# Altium schematic symbol library CPLD_Xilinx.SchLib: 17 symbols
Pins are listed as number, name and electrical type; pins without a type are passive.

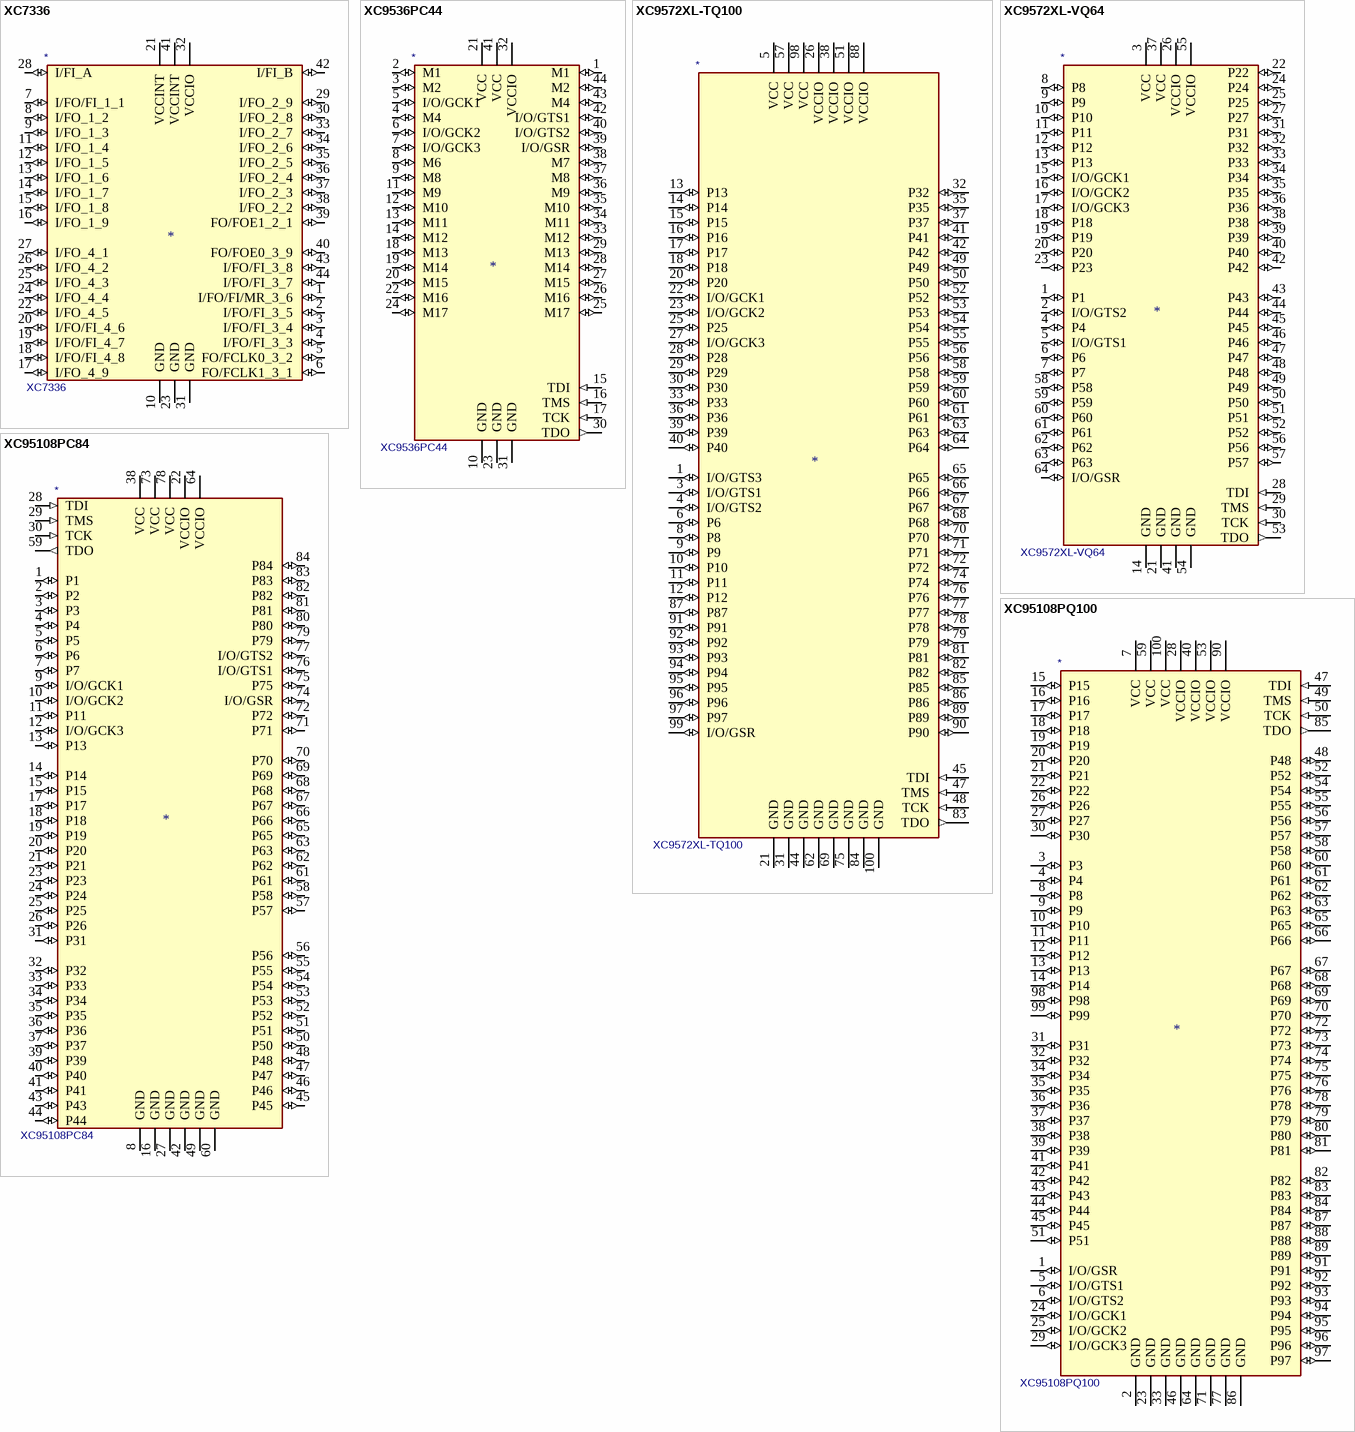
[diagram p0: symbols XC7336 to XC95108PQ100]

## XC7336
designator *  value XC7336
ki_description: Xilinx CPLD, Obsolete
pins: 1 I/FO/FI/MR_3_6 (io), 2 I/FO/FI_3_5 (io), 3 I/FO/FI_3_4 (io), 4 I/FO/FI_3_3 (io), 5 FO/FCLK0_3_2 (io), 6 FO/FCLK1_3_1 (io), 7 I/FO/FI_1_1 (io), 8 I/FO_1_2 (io), 9 I/FO_1_3 (io), 10 GND (power), 11 I/FO_1_4 (io), 12 I/FO_1_5 (io), 13 I/FO_1_6 (io), 14 I/FO_1_7 (io), 15 I/FO_1_8 (io), 16 I/FO_1_9 (io), 17 I/FO_4_9 (io), 18 I/FO/FI_4_8 (io), 19 I/FO/FI_4_7 (io), 20 I/FO/FI_4_6 (io), 21 VCCINT (power), 22 I/FO_4_5 (io), 23 GND (power), 24 I/FO_4_4 (io), 25 I/FO_4_3 (io), 26 I/FO_4_2 (io), 27 I/FO_4_1 (io), 28 I/FI_A (io), 29 I/FO_2_9 (io), 30 I/FO_2_8 (io), 31 GND (power), 32 VCCIO (power), 33 I/FO_2_7 (io), 34 I/FO_2_6 (io), 35 I/FO_2_5 (io), 36 I/FO_2_4 (io), 37 I/FO_2_3 (io), 38 I/FO_2_2 (io), 39 FO/FOE1_2_1 (io), 40 FO/FOE0_3_9 (io), 41 VCCINT (power), 42 I/FI_B (io), 43 I/FO/FI_3_8 (io), 44 I/FO/FI_3_7 (io)

## XC9536PC44
designator *  value XC9536PC44
ki_description: Xilinx CPLD, Obsolete; Supplier: xilinx/xc9536.pdf
pins: 1 M1 (io), 2 M1 (io), 3 M2 (io), 4 M4 (io), 5 I/O/GCK1 (io), 6 I/O/GCK2 (io), 7 I/O/GCK3 (io), 8 M6 (io), 9 M8 (io), 10 GND (power), 11 M9 (io), 12 M10 (io), 13 M11 (io), 14 M12 (io), 15 TDI (in), 16 TMS (in), 17 TCK (in), 18 M13 (io), 19 M14 (io), 20 M15 (io), 21 VCC (power), 22 M16 (io), 23 GND (power), 24 M17 (io), 25 M17 (io), 26 M16 (io), 27 M15 (io), 28 M14 (io), 29 M13 (io), 30 TDO (out), 31 GND (power), 32 VCCIO (power), 33 M12 (io), 34 M11 (io), 35 M10 (io), 36 M9 (io), 37 M8 (io), 38 M7 (io), 39 I/O/GSR (io), 40 I/O/GTS2 (io), 41 VCC (power), 42 I/O/GTS1 (io), 43 M4 (io), 44 M2 (io)

## XC9572XL-TQ100
designator *  value XC9572XL-TQ100
ki_keywords: CPLD; ki_description: CPLD, 72 Macrocells, 1600 Usable Gates; ki_fp_filters: TQFP*14x14mm*P0.5mm*; Footprint: Package_QFP:TQFP-100_14x14mm_P0.5mm; Supplier: http://www.xilinx.com/support/documentation/data_sheets/ds057.pdf
footprint TQFP-100_14x14mm_P0.5mm
pins: 1 I/O/GTS3 (io), 2 NC (in) hidden, 3 I/O/GTS1 (io), 4 I/O/GTS2 (io), 5 VCC (power), 6 P6 (io), 7 NC (in) hidden, 8 P8 (io), 9 P9 (io), 10 P10 (io), 11 P11 (io), 12 P12 (io), 13 P13 (io), 14 P14 (io), 15 P15 (io), 16 P16 (io), 17 P17 (io), 18 P18 (io), 19 NC (in) hidden, 20 P20 (io), 21 GND (power), 22 I/O/GCK1 (io), 23 I/O/GCK2 (io), 24 NC (in) hidden, 25 P25 (io), 26 VCCIO (power), 27 I/O/GCK3 (io), 28 P28 (io), 29 P29 (io), 30 P30 (io), 31 GND (power), 32 P32 (io), 33 P33 (io), 34 NC (in) hidden, 35 P35 (io), 36 P36 (io), 37 P37 (io), 38 VCCIO (power), 39 P39 (io), 40 P40 (io), 41 P41 (io), 42 P42 (io), 43 NC (in) hidden, 44 GND (power), 45 TDI (in), 46 NC (in) hidden, 47 TMS (in), 48 TCK (in), 49 P49 (io), 50 P50 (io), 51 VCCIO (power), 52 P52 (io), 53 P53 (io), 54 P54 (io), 55 P55 (io), 56 P56 (io), 57 VCC (power), 58 P58 (io), 59 P59 (io), 60 P60 (io), 61 P61 (io), 62 GND (power), 63 P63 (io), 64 P64 (io), 65 P65 (io), 66 P66 (io), 67 P67 (io), 68 P68 (io), 69 GND (power), 70 P70 (io), 71 P71 (io), 72 P72 (io), 73 NC (in) hidden, 74 P74 (io), 75 GND (power), 76 P76 (io), 77 P77 (io), 78 P78 (io), 79 P79 (io), 80 NC (in) hidden, 81 P81 (io), 82 P82 (io), 83 TDO (out), 84 GND (power), 85 P85 (io), 86 P86 (io), 87 P87 (io), 88 VCCIO (power), 89 P89 (io), 90 P90 (io), 91 P91 (io), 92 P92 (io), 93 P93 (io), 94 P94 (io), 95 P95 (io), 96 P96 (io), 97 P97 (io), 98 VCC (power), 99 I/O/GSR (io), 100 GND (power)

## XC9572XL-VQ64
designator *  value XC9572XL-VQ64
ki_keywords: CPLD; ki_description: CPLD, 72 Macrocells, 1600 Usable Gates; ki_fp_filters: TQFP*10x10mm*P0.5mm*; Footprint: Package_QFP:TQFP-64_10x10mm_P0.5mm; Supplier: http://www.xilinx.com/support/documentation/data_sheets/ds057.pdf
footprint TQFP-64_10x10mm_P0.5mm
pins: 1 P1 (io), 2 I/O/GTS2 (io), 3 VCC (power), 4 P4 (io), 5 I/O/GTS1 (io), 6 P6 (io), 7 P7 (io), 8 P8 (io), 9 P9 (io), 10 P10 (io), 11 P11 (io), 12 P12 (io), 13 P13 (io), 14 GND (power), 15 I/O/GCK1 (io), 16 I/O/GCK2 (io), 17 I/O/GCK3 (io), 18 P18 (io), 19 P19 (io), 20 P20 (io), 21 GND (power), 22 P22 (io), 23 P23 (io), 24 P24 (io), 25 P25 (io), 26 VCCIO (power), 27 P27 (io), 28 TDI (in), 29 TMS (in), 30 TCK (in), 31 P31 (io), 32 P32 (io), 33 P33 (io), 34 P34 (io), 35 P35 (io), 36 P36 (io), 37 VCC (power), 38 P38 (io), 39 P39 (io), 40 P40 (io), 41 GND (power), 42 P42 (io), 43 P43 (io), 44 P44 (io), 45 P45 (io), 46 P46 (io), 47 P47 (io), 48 P48 (io), 49 P49 (io), 50 P50 (io), 51 P51 (io), 52 P52 (io), 53 TDO (out), 54 GND (power), 55 VCCIO (power), 56 P56 (io), 57 P57 (io), 58 P58 (io), 59 P59 (io), 60 P60 (io), 61 P61 (io), 62 P62 (io), 63 P63 (io), 64 I/O/GSR (io)

## XC95108PC84
designator *  value XC95108PC84
ki_description: Xilinx CPLD, Obsolete; Supplier: xilinx/xc95108.pdf
pins: 1 P1 (io), 2 P2 (io), 3 P3 (io), 4 P4 (io), 5 P5 (io), 6 P6 (io), 7 P7 (io), 8 GND (power), 9 I/O/GCK1 (io), 10 I/O/GCK2 (io), 11 P11 (io), 12 I/O/GCK3 (io), 13 P13 (io), 14 P14 (io), 15 P15 (io), 16 GND (power), 17 P17 (io), 18 P18 (io), 19 P19 (io), 20 P20 (io), 21 P21 (io), 22 VCCIO (power), 23 P23 (io), 24 P24 (io), 25 P25 (io), 26 P26 (io), 27 GND (power), 28 TDI (in), 29 TMS (in), 30 TCK (in), 31 P31 (io), 32 P32 (io), 33 P33 (io), 34 P34 (io), 35 P35 (io), 36 P36 (io), 37 P37 (io), 38 VCC (power), 39 P39 (io), 40 P40 (io), 41 P41 (io), 42 GND (power), 43 P43 (io), 44 P44 (io), 45 P45 (io), 46 P46 (io), 47 P47 (io), 48 P48 (io), 49 GND (power), 50 P50 (io), 51 P51 (io), 52 P52 (io), 53 P53 (io), 54 P54 (io), 55 P55 (io), 56 P56 (io), 57 P57 (io), 58 P58 (io), 59 TDO (out), 60 GND (power), 61 P61 (io), 62 P62 (io), 63 P63 (io), 64 VCCIO (power), 65 P65 (io), 66 P66 (io), 67 P67 (io), 68 P68 (io), 69 P69 (io), 70 P70 (io), 71 P71 (io), 72 P72 (io), 73 VCC (power), 74 I/O/GSR (io), 75 P75 (io), 76 I/O/GTS1 (io), 77 I/O/GTS2 (io), 78 VCC (power), 79 P79 (io), 80 P80 (io), 81 P81 (io), 82 P82 (io), 83 P83 (io), 84 P84 (io)

## XC95108PQ100
designator *  value XC95108PQ100
ki_description: Xilinx CPLD, Obsolete; Supplier: xilinx/xc95108.pdf
pins: 1 I/O/GSR (io), 2 GND (power), 3 P3 (io), 4 P4 (io), 5 I/O/GTS1 (io), 6 I/O/GTS2 (io), 7 VCC (power), 8 P8 (io), 9 P9 (io), 10 P10 (io), 11 P11 (io), 12 P12 (io), 13 P13 (io), 14 P14 (io), 15 P15 (io), 16 P16 (io), 17 P17 (io), 18 P18 (io), 19 P19 (io), 20 P20 (io), 21 P21 (io), 22 P22 (io), 23 GND (power), 24 I/O/GCK1 (io), 25 I/O/GCK2 (io), 26 P26 (io), 27 P27 (io), 28 VCCIO (power), 29 I/O/GCK3 (io), 30 P30 (io), 31 P31 (io), 32 P32 (io), 33 GND (power), 34 P34 (io), 35 P35 (io), 36 P36 (io), 37 P37 (io), 38 P38 (io), 39 P39 (io), 40 VCCIO (power), 41 P41 (io), 42 P42 (io), 43 P43 (io), 44 P44 (io), 45 P45 (io), 46 GND (power), 47 TDI (in), 48 P48 (io), 49 TMS (in), 50 TCK (in), 51 P51 (io), 52 P52 (io), 53 VCCIO (power), 54 P54 (io), 55 P55 (io), 56 P56 (io), 57 P57 (io), 58 P58 (io), 59 VCC (power), 60 P60 (io), 61 P61 (io), 62 P62 (io), 63 P63 (io), 64 GND (power), 65 P65 (io), 66 P66 (io), 67 P67 (io), 68 P68 (io), 69 P69 (io), 70 P70 (io), 71 GND (power), 72 P72 (io), 73 P73 (io), 74 P74 (io), 75 P75 (io), 76 P76 (io), 77 GND (power), 78 P78 (io), 79 P79 (io), 80 P80 (io), 81 P81 (io), 82 P82 (io), 83 P83 (io), 84 P84 (io), 85 TDO (out), 86 GND (power), 87 P87 (io), 88 P88 (io), 89 P89 (io), 90 VCCIO (power), 91 P91 (io), 92 P92 (io), 93 P93 (io), 94 P94 (io), 95 P95 (io), 96 P96 (io), 97 P97 (io), 98 P98 (io), 99 P99 (io), 100 VCC (power)

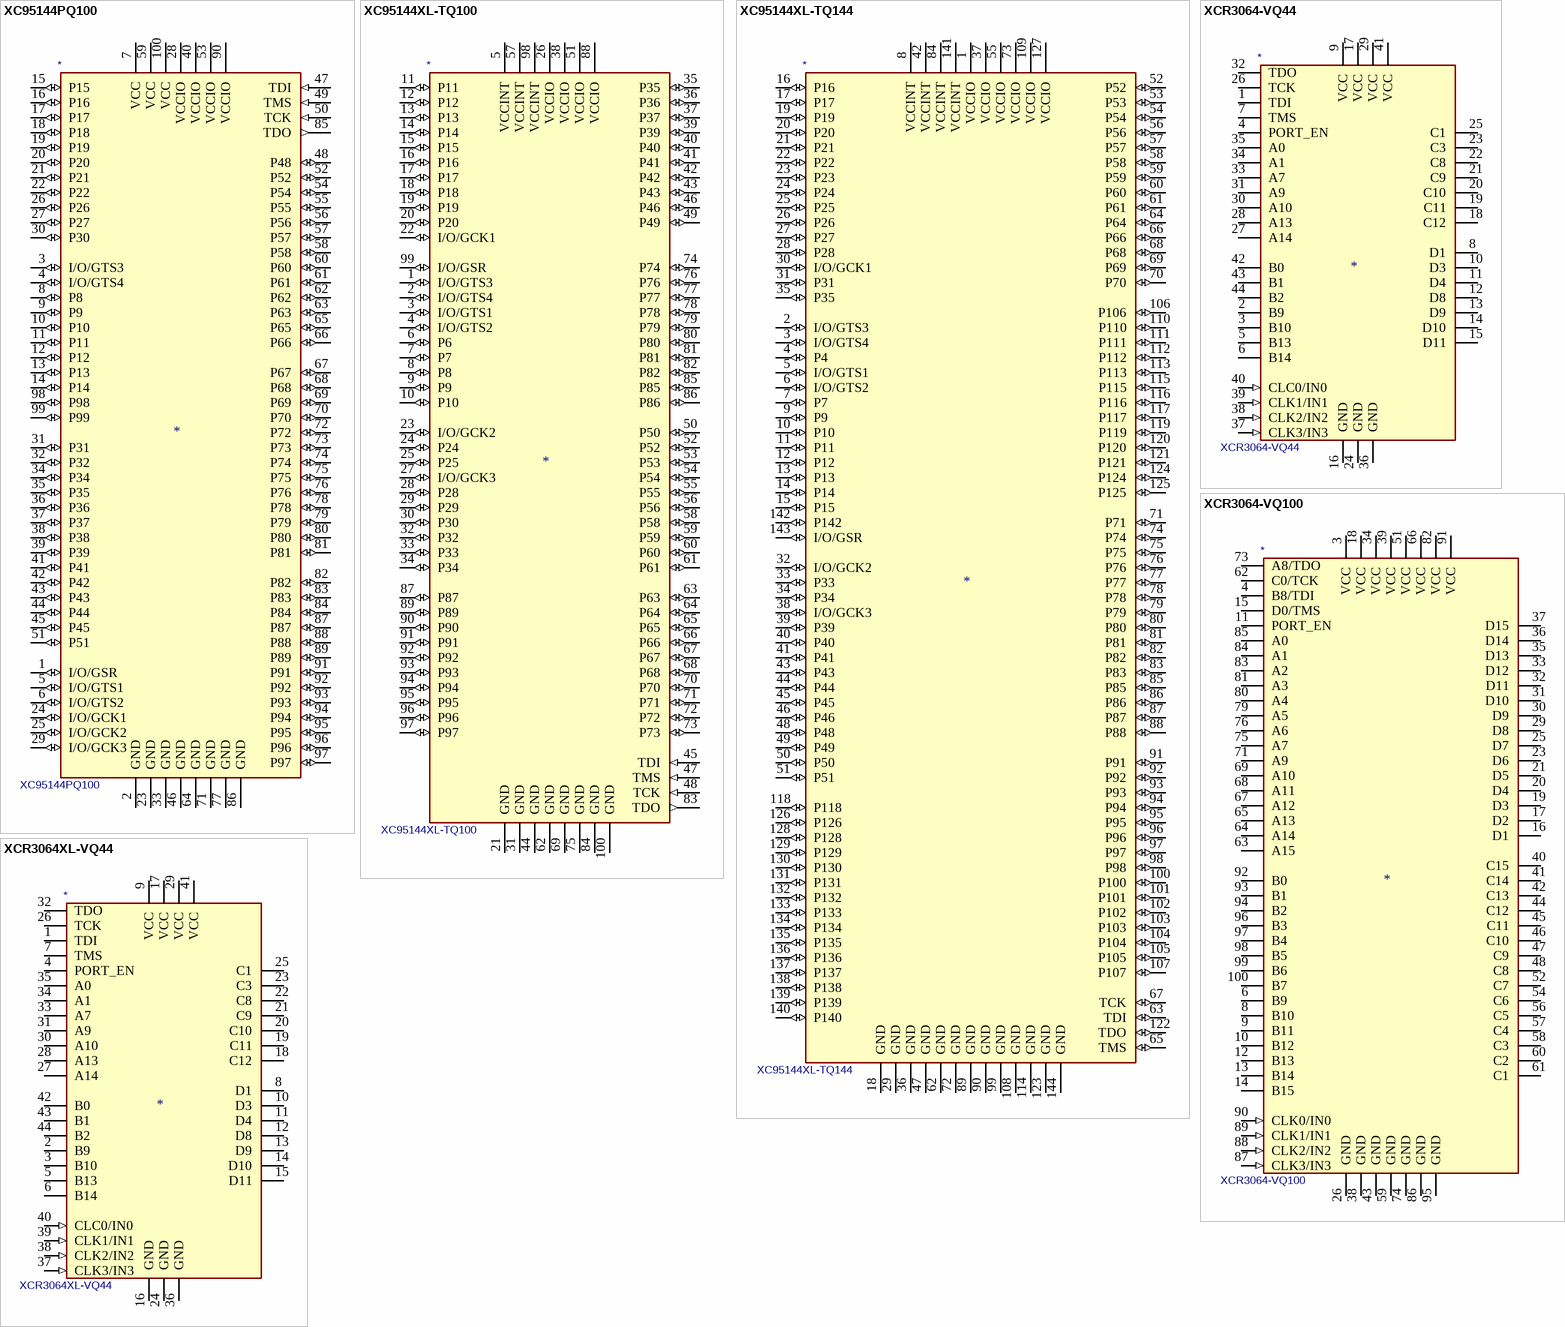
[diagram p1: symbols XC95144PQ100 to XCR3064XL-VQ44]

## XC95144PQ100
designator *  value XC95144PQ100
ki_description: Xilinx CPLD, Obsolete
pins: 1 I/O/GSR (io), 2 GND (power), 3 I/O/GTS3 (io), 4 I/O/GTS4 (io), 5 I/O/GTS1 (io), 6 I/O/GTS2 (io), 7 VCC (power), 8 P8 (io), 9 P9 (io), 10 P10 (io), 11 P11 (io), 12 P12 (io), 13 P13 (io), 14 P14 (io), 15 P15 (io), 16 P16 (io), 17 P17 (io), 18 P18 (io), 19 P19 (io), 20 P20 (io), 21 P21 (io), 22 P22 (io), 23 GND (power), 24 I/O/GCK1 (io), 25 I/O/GCK2 (io), 26 P26 (io), 27 P27 (io), 28 VCCIO (power), 29 I/O/GCK3 (io), 30 P30 (io), 31 P31 (io), 32 P32 (io), 33 GND (power), 34 P34 (io), 35 P35 (io), 36 P36 (io), 37 P37 (io), 38 P38 (io), 39 P39 (io), 40 VCCIO (power), 41 P41 (io), 42 P42 (io), 43 P43 (io), 44 P44 (io), 45 P45 (io), 46 GND (power), 47 TDI (in), 48 P48 (io), 49 TMS (in), 50 TCK (in), 51 P51 (io), 52 P52 (io), 53 VCCIO (power), 54 P54 (io), 55 P55 (io), 56 P56 (io), 57 P57 (io), 58 P58 (io), 59 VCC (power), 60 P60 (io), 61 P61 (io), 62 P62 (io), 63 P63 (io), 64 GND (power), 65 P65 (io), 66 P66 (io), 67 P67 (io), 68 P68 (io), 69 P69 (io), 70 P70 (io), 71 GND (power), 72 P72 (io), 73 P73 (io), 74 P74 (io), 75 P75 (io), 76 P76 (io), 77 GND (power), 78 P78 (io), 79 P79 (io), 80 P80 (io), 81 P81 (io), 82 P82 (io), 83 P83 (io), 84 P84 (io), 85 TDO (out), 86 GND (power), 87 P87 (io), 88 P88 (io), 89 P89 (io), 90 VCCIO (power), 91 P91 (io), 92 P92 (io), 93 P93 (io), 94 P94 (io), 95 P95 (io), 96 P96 (io), 97 P97 (io), 98 P98 (io), 99 P99 (io), 100 VCC (power)

## XC95144XL-TQ100
designator *  value XC95144XL-TQ100
ki_keywords: CPLD; ki_description: CPLD, 144 Macrocells, 3200 Usable Gates; ki_fp_filters: TQFP*14x14mm*P0.5mm*; Footprint: Package_QFP:TQFP-100_14x14mm_P0.5mm; Supplier: https://www.xilinx.com/support/documentation/data_sheets/ds056.pdf
footprint TQFP-100_14x14mm_P0.5mm
pins: 1 I/O/GTS3 (io), 2 I/O/GTS4 (io), 3 I/O/GTS1 (io), 4 I/O/GTS2 (io), 5 VCCINT (power), 6 P6 (io), 7 P7 (io), 8 P8 (io), 9 P9 (io), 10 P10 (io), 11 P11 (io), 12 P12 (io), 13 P13 (io), 14 P14 (io), 15 P15 (io), 16 P16 (io), 17 P17 (io), 18 P18 (io), 19 P19 (io), 20 P20 (io), 21 GND (power), 22 I/O/GCK1 (io), 23 I/O/GCK2 (io), 24 P24 (io), 25 P25 (io), 26 VCCIO (power), 27 I/O/GCK3 (io), 28 P28 (io), 29 P29 (io), 30 P30 (io), 31 GND (power), 32 P32 (io), 33 P33 (io), 34 P34 (io), 35 P35 (io), 36 P36 (io), 37 P37 (io), 38 VCCIO (power), 39 P39 (io), 40 P40 (io), 41 P41 (io), 42 P42 (io), 43 P43 (io), 44 GND (power), 45 TDI (in), 46 P46 (io), 47 TMS (in), 48 TCK (in), 49 P49 (io), 50 P50 (io), 51 VCCIO (power), 52 P52 (io), 53 P53 (io), 54 P54 (io), 55 P55 (io), 56 P56 (io), 57 VCCINT (power), 58 P58 (io), 59 P59 (io), 60 P60 (io), 61 P61 (io), 62 GND (power), 63 P63 (io), 64 P64 (io), 65 P65 (io), 66 P66 (io), 67 P67 (io), 68 P68 (io), 69 GND (power), 70 P70 (io), 71 P71 (io), 72 P72 (io), 73 P73 (io), 74 P74 (io), 75 GND (power), 76 P76 (io), 77 P77 (io), 78 P78 (io), 79 P79 (io), 80 P80 (io), 81 P81 (io), 82 P82 (io), 83 TDO (out), 84 GND (power), 85 P85 (io), 86 P86 (io), 87 P87 (io), 88 VCCIO (power), 89 P89 (io), 90 P90 (io), 91 P91 (io), 92 P92 (io), 93 P93 (io), 94 P94 (io), 95 P95 (io), 96 P96 (io), 97 P97 (io), 98 VCCINT (power), 99 I/O/GSR (io), 100 GND (power)

## XC95144XL-TQ144
designator *  value XC95144XL-TQ144
ki_keywords: CPLD; ki_description: CPLD, 144 Macrocells, 3200 Usable Gates; ki_fp_filters: TQFP*20x20mm*P0.5mm*; Footprint: Package_QFP:TQFP-144_20x20mm_P0.5mm; Supplier: https://www.xilinx.com/support/documentation/data_sheets/ds056.pdf
footprint TQFP-144_20x20mm_P0.5mm
pins: 1 VCCIO (power), 2 I/O/GTS3 (io), 3 I/O/GTS4 (io), 4 P4 (io), 5 I/O/GTS1 (io), 6 I/O/GTS2 (io), 7 P7 (io), 8 VCCINT (power), 9 P9 (io), 10 P10 (io), 11 P11 (io), 12 P12 (io), 13 P13 (io), 14 P14 (io), 15 P15 (io), 16 P16 (io), 17 P17 (io), 18 GND (power), 19 P19 (io), 20 P20 (io), 21 P21 (io), 22 P22 (io), 23 P23 (io), 24 P24 (io), 25 P25 (io), 26 P26 (io), 27 P27 (io), 28 P28 (io), 29 GND (power), 30 I/O/GCK1 (io), 31 P31 (io), 32 I/O/GCK2 (io), 33 P33 (io), 34 P34 (io), 35 P35 (io), 36 GND (power), 37 VCCIO (power), 38 I/O/GCK3 (io), 39 P39 (io), 40 P40 (io), 41 P41 (io), 42 VCCINT (power), 43 P43 (io), 44 P44 (io), 45 P45 (io), 46 P46 (io), 47 GND (power), 48 P48 (io), 49 P49 (io), 50 P50 (io), 51 P51 (io), 52 P52 (io), 53 P53 (io), 54 P54 (io), 55 VCCIO (power), 56 P56 (io), 57 P57 (io), 58 P58 (io), 59 P59 (io), 60 P60 (io), 61 P61 (io), 62 GND (power), 63 TDI (io), 64 P64 (io), 65 TMS (io), 66 P66 (io), 67 TCK (io), 68 P68 (io), 69 P69 (io), 70 P70 (io), 71 P71 (io), 72 GND (power), 73 VCCIO (power), 74 P74 (io), 75 P75 (io), 76 P76 (io), 77 P77 (io), 78 P78 (io), 79 P79 (io), 80 P80 (io), 81 P81 (io), 82 P82 (io), 83 P83 (io), 84 VCCINT (power), 85 P85 (io), 86 P86 (io), 87 P87 (io), 88 P88 (io), 89 GND (power), 90 GND (power), 91 P91 (io), 92 P92 (io), 93 P93 (io), 94 P94 (io), 95 P95 (io), 96 P96 (io), 97 P97 (io), 98 P98 (io), 99 GND (power), 100 P100 (io), 101 P101 (io), 102 P102 (io), 103 P103 (io), 104 P104 (io), 105 P105 (io), 106 P106 (io), 107 P107 (io), 108 GND (power), 109 VCCIO (power), 110 P110 (io), 111 P111 (io), 112 P112 (io), 113 P113 (io), 114 GND (power), 115 P115 (io), 116 P116 (io), 117 P117 (io), 118 P118 (io), 119 P119 (io), 120 P120 (io), 121 P121 (io), 122 TDO (io), 123 GND (power), 124 P124 (io), 125 P125 (io), 126 P126 (io), 127 VCCIO (power), 128 P128 (io), 129 P129 (io), 130 P130 (io), 131 P131 (io), 132 P132 (io), 133 P133 (io), 134 P134 (io), 135 P135 (io), 136 P136 (io), 137 P137 (io), 138 P138 (io), 139 P139 (io), 140 P140 (io), 141 VCCINT (power), 142 P142 (io), 143 I/O/GSR (io), 144 GND (power)

## XCR3064-VQ44
designator *  value XCR3064-VQ44
ki_keywords: CPLD; ki_description: Xilinx CoolRunner 64-Macrocell CPLD, 3.3V, VQFP-44, Obsolete; ki_fp_filters: LQFP*10x10mm*P0.8mm*; Footprint: Package_QFP:LQFP-44_10x10mm_P0.8mm; Supplier: https://www.xilinx.com/support/documentation/data_sheets/ds017.pdf
footprint LQFP-44_10x10mm_P0.8mm
pins: 1 TDI, 2 B9, 3 B10, 4 PORT_EN, 5 B13, 6 B14, 7 TMS, 8 D1, 9 VCC (power), 10 D3, 11 D4, 12 D8, 13 D9, 14 D10, 15 D11, 16 GND (power), 17 VCC (power), 18 C12, 19 C11, 20 C10, 21 C9, 22 C8, 23 C3, 24 GND (power), 25 C1, 26 TCK, 27 A14, 28 A13, 29 VCC (power), 30 A10, 31 A9, 32 TDO, 33 A7, 34 A1, 35 A0, 36 GND (power), 37 CLK3/IN3 (in), 38 CLK2/IN2 (in), 39 CLK1/IN1 (in), 40 CLC0/IN0 (in), 41 VCC (power), 42 B0, 43 B1, 44 B2

## XCR3064-VQ100
designator *  value XCR3064-VQ100
ki_keywords: CPLD; ki_description: Xilinx CoolRunner 64-Macrocell CPLD, 3.3V, VQFP-100, Obsolete; ki_fp_filters: LQFP*14x14mm*P0.5*; Footprint: Package_QFP:LQFP-100_14x14mm_P0.5mm; Supplier: https://www.xilinx.com/support/documentation/data_sheets/ds017.pdf
footprint LQFP-100_14x14mm_P0.5mm
pins: 3 VCC (power), 4 B8/TDI, 6 B9, 8 B10, 9 B11, 10 B12, 11 PORT_EN, 12 B13, 13 B14, 14 B15, 15 D0/TMS, 16 D1, 17 D2, 18 VCC (power), 19 D3, 20 D4, 21 D5, 23 D6, 25 D7, 26 GND (power), 29 D8, 30 D9, 31 D10, 32 D11, 33 D12, 34 VCC (power), 35 D13, 36 D14, 37 D15, 38 GND (power), 39 VCC (power), 40 C15, 41 C14, 42 C13, 43 GND (power), 44 C12, 45 C11, 46 C10, 47 C9, 48 C8, 51 VCC (power), 52 C7, 54 C6, 56 C5, 57 C4, 58 C3, 59 GND (power), 60 C2, 61 C1, 62 C0/TCK, 63 A15, 64 A14, 65 A13, 66 VCC (power), 67 A12, 68 A11, 69 A10, 71 A9, 73 A8/TDO, 74 GND (power), 75 A7, 76 A6, 79 A5, 80 A4, 81 A3, 82 VCC (power), 83 A2, 84 A1, 85 A0, 86 GND (power), 87 CLK3/IN3 (in), 88 CLK2/IN2 (in), 89 CLK1/IN1 (in), 90 CLK0/IN0 (in), 91 VCC (power), 92 B0, 93 B1, 94 B2, 95 GND (power), 96 B3, 97 B4, 98 B5, 99 B6, 100 B7

## XCR3064XL-VQ44
designator *  value XCR3064XL-VQ44
ki_keywords: CPLD; ki_description: Xilinx CoolRunner 64-Macrocell CPLD, 3.3V, VQFP-44; ki_fp_filters: LQFP*10x10mm*P0.8mm*; Footprint: Package_QFP:LQFP-44_10x10mm_P0.8mm; Supplier: https://www.xilinx.com/support/documentation/data_sheets/ds017.pdf
footprint LQFP-44_10x10mm_P0.8mm
pins: 1 TDI, 2 B9, 3 B10, 4 PORT_EN, 5 B13, 6 B14, 7 TMS, 8 D1, 9 VCC (power), 10 D3, 11 D4, 12 D8, 13 D9, 14 D10, 15 D11, 16 GND (power), 17 VCC (power), 18 C12, 19 C11, 20 C10, 21 C9, 22 C8, 23 C3, 24 GND (power), 25 C1, 26 TCK, 27 A14, 28 A13, 29 VCC (power), 30 A10, 31 A9, 32 TDO, 33 A7, 34 A1, 35 A0, 36 GND (power), 37 CLK3/IN3 (in), 38 CLK2/IN2 (in), 39 CLK1/IN1 (in), 40 CLC0/IN0 (in), 41 VCC (power), 42 B0, 43 B1, 44 B2

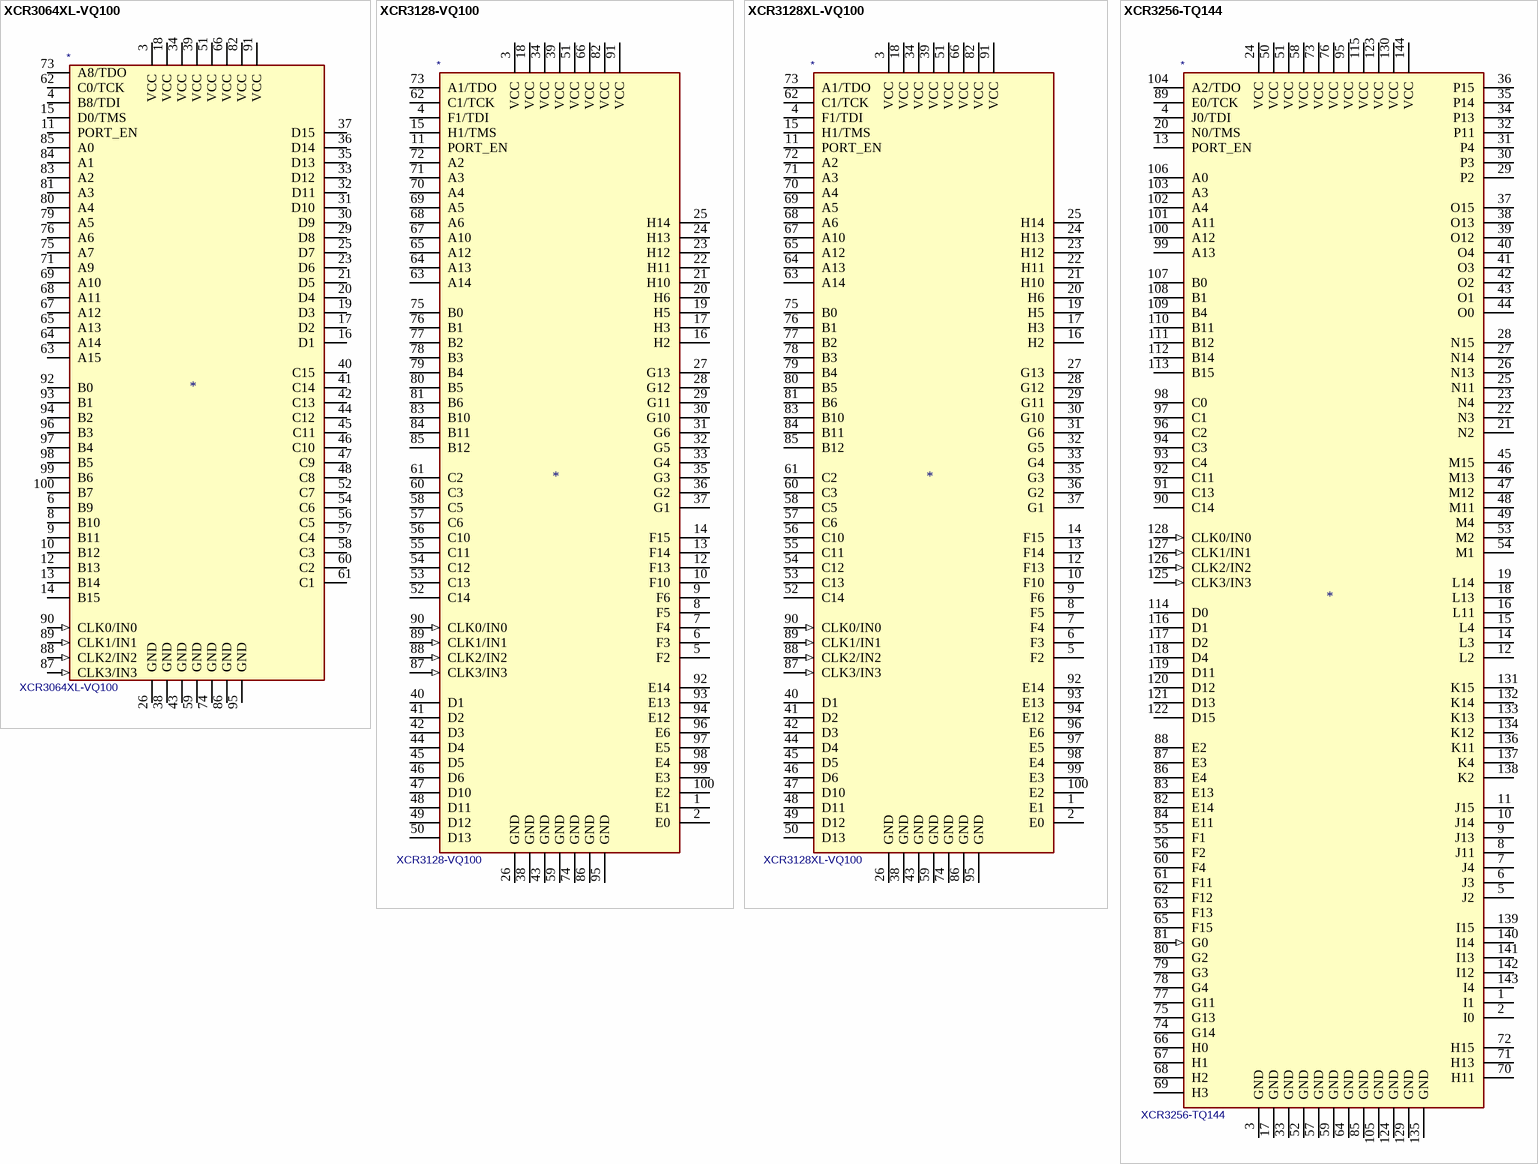
[diagram p2: symbols XCR3064XL-VQ100 to XCR3256-TQ144]

## XCR3064XL-VQ100
designator *  value XCR3064XL-VQ100
ki_keywords: CPLD; ki_description: Xilinx CoolRunner 64-Macrocell CPLD, 3.3V, VQFP-100; ki_fp_filters: LQFP*14x14mm*P0.5*; Footprint: Package_QFP:LQFP-100_14x14mm_P0.5mm; Supplier: https://www.xilinx.com/support/documentation/data_sheets/ds017.pdf
footprint LQFP-100_14x14mm_P0.5mm
pins: 3 VCC (power), 4 B8/TDI, 6 B9, 8 B10, 9 B11, 10 B12, 11 PORT_EN, 12 B13, 13 B14, 14 B15, 15 D0/TMS, 16 D1, 17 D2, 18 VCC (power), 19 D3, 20 D4, 21 D5, 23 D6, 25 D7, 26 GND (power), 29 D8, 30 D9, 31 D10, 32 D11, 33 D12, 34 VCC (power), 35 D13, 36 D14, 37 D15, 38 GND (power), 39 VCC (power), 40 C15, 41 C14, 42 C13, 43 GND (power), 44 C12, 45 C11, 46 C10, 47 C9, 48 C8, 51 VCC (power), 52 C7, 54 C6, 56 C5, 57 C4, 58 C3, 59 GND (power), 60 C2, 61 C1, 62 C0/TCK, 63 A15, 64 A14, 65 A13, 66 VCC (power), 67 A12, 68 A11, 69 A10, 71 A9, 73 A8/TDO, 74 GND (power), 75 A7, 76 A6, 79 A5, 80 A4, 81 A3, 82 VCC (power), 83 A2, 84 A1, 85 A0, 86 GND (power), 87 CLK3/IN3 (in), 88 CLK2/IN2 (in), 89 CLK1/IN1 (in), 90 CLK0/IN0 (in), 91 VCC (power), 92 B0, 93 B1, 94 B2, 95 GND (power), 96 B3, 97 B4, 98 B5, 99 B6, 100 B7

## XCR3128-VQ100
designator *  value XCR3128-VQ100
ki_keywords: CPLD; ki_description: Xilinx CoolRunner 128-Macrocell CPLD, 3.3V, VQFP-100, Obsolete; ki_fp_filters: LQFP*14x14mm*P0.5*; Footprint: Package_QFP:LQFP-100_14x14mm_P0.5mm; Supplier: https://www.xilinx.com/support/documentation/data_sheets/ds016.pdf
footprint LQFP-100_14x14mm_P0.5mm
pins: 1 E1, 2 E0, 3 VCC (power), 4 F1/TDI, 5 F2, 6 F3, 7 F4, 8 F5, 9 F6, 10 F10, 11 PORT_EN, 12 F13, 13 F14, 14 F15, 15 H1/TMS, 16 H2, 17 H3, 18 VCC (power), 19 H5, 20 H6, 21 H10, 22 H11, 23 H12, 24 H13, 25 H14, 26 GND (power), 27 G13, 28 G12, 29 G11, 30 G10, 31 G6, 32 G5, 33 G4, 34 VCC (power), 35 G3, 36 G2, 37 G1, 38 GND (power), 39 VCC (power), 40 D1, 41 D2, 42 D3, 43 GND (power), 44 D4, 45 D5, 46 D6, 47 D10, 48 D11, 49 D12, 50 D13, 51 VCC (power), 52 C14, 53 C13, 54 C12, 55 C11, 56 C10, 57 C6, 58 C5, 59 GND (power), 60 C3, 61 C2, 62 C1/TCK, 63 A14, 64 A13, 65 A12, 66 VCC (power), 67 A10, 68 A6, 69 A5, 70 A4, 71 A3, 72 A2, 73 A1/TDO, 74 GND (power), 75 B0, 76 B1, 77 B2, 78 B3, 79 B4, 80 B5, 81 B6, 82 VCC (power), 83 B10, 84 B11, 85 B12, 86 GND (power), 87 CLK3/IN3 (in), 88 CLK2/IN2 (in), 89 CLK1/IN1 (in), 90 CLK0/IN0 (in), 91 VCC (power), 92 E14, 93 E13, 94 E12, 95 GND (power), 96 E6, 97 E5, 98 E4, 99 E3, 100 E2

## XCR3128XL-VQ100
designator *  value XCR3128XL-VQ100
ki_keywords: CPLD; ki_description: Xilinx CoolRunner 128-Macrocell CPLD, 3.3V, VQFP-100; ki_fp_filters: LQFP*14x14mm*P0.5*; Footprint: Package_QFP:LQFP-100_14x14mm_P0.5mm; Supplier: https://www.xilinx.com/support/documentation/data_sheets/ds016.pdf
footprint LQFP-100_14x14mm_P0.5mm
pins: 1 E1, 2 E0, 3 VCC (power), 4 F1/TDI, 5 F2, 6 F3, 7 F4, 8 F5, 9 F6, 10 F10, 11 PORT_EN, 12 F13, 13 F14, 14 F15, 15 H1/TMS, 16 H2, 17 H3, 18 VCC (power), 19 H5, 20 H6, 21 H10, 22 H11, 23 H12, 24 H13, 25 H14, 26 GND (power), 27 G13, 28 G12, 29 G11, 30 G10, 31 G6, 32 G5, 33 G4, 34 VCC (power), 35 G3, 36 G2, 37 G1, 38 GND (power), 39 VCC (power), 40 D1, 41 D2, 42 D3, 43 GND (power), 44 D4, 45 D5, 46 D6, 47 D10, 48 D11, 49 D12, 50 D13, 51 VCC (power), 52 C14, 53 C13, 54 C12, 55 C11, 56 C10, 57 C6, 58 C5, 59 GND (power), 60 C3, 61 C2, 62 C1/TCK, 63 A14, 64 A13, 65 A12, 66 VCC (power), 67 A10, 68 A6, 69 A5, 70 A4, 71 A3, 72 A2, 73 A1/TDO, 74 GND (power), 75 B0, 76 B1, 77 B2, 78 B3, 79 B4, 80 B5, 81 B6, 82 VCC (power), 83 B10, 84 B11, 85 B12, 86 GND (power), 87 CLK3/IN3 (in), 88 CLK2/IN2 (in), 89 CLK1/IN1 (in), 90 CLK0/IN0 (in), 91 VCC (power), 92 E14, 93 E13, 94 E12, 95 GND (power), 96 E6, 97 E5, 98 E4, 99 E3, 100 E2

## XCR3256-TQ144
designator *  value XCR3256-TQ144
ki_keywords: CPLD; ki_description: Xilinx CoolRunner 256-Macrocell CPLD, 3.3V, TQFP-144, Obsolete; ki_fp_filters: TQFP*20x20mm*P0.5*; Footprint: Package_QFP:TQFP-144_20x20mm_P0.5mm; Supplier: https://www.xilinx.com/support/documentation/data_sheets/ds013.pdf
footprint TQFP-144_20x20mm_P0.5mm
pins: 1 I1, 2 I0, 3 GND (power), 4 J0/TDI, 5 J2, 6 J3, 7 J4, 8 J11, 9 J13, 10 J14, 11 J15, 12 L2, 13 PORT_EN, 14 L3, 15 L4, 16 L11, 17 GND (power), 18 L13, 19 L14, 20 N0/TMS, 21 N2, 22 N3, 23 N4, 24 VCC (power), 25 N11, 26 N13, 27 N14, 28 N15, 29 P2, 30 P3, 31 P4, 32 P11, 33 GND (power), 34 P13, 35 P14, 36 P15, 37 O15, 38 O13, 39 O12, 40 O4, 41 O3, 42 O2, 43 O1, 44 O0, 45 M15, 46 M13, 47 M12, 48 M11, 49 M4, 50 VCC (power), 51 VCC (power), 52 GND (power), 53 M2, 54 M1, 55 F1, 56 F2, 57 GND (power), 58 VCC (power), 59 GND (power), 60 F4, 61 F11, 62 F12, 63 F13, 64 GND (power), 65 F15, 66 H0, 67 H1, 68 H2, 69 H3, 70 H11, 71 H13, 72 H15, 73 VCC (power), 74 G14, 75 G13, 76 VCC (power), 77 G11, 78 G4, 79 G3, 80 G2, 81 G0 (in), 82 E14, 83 E13, 84 E11, 85 GND (power), 86 E4, 87 E3, 88 E2, 89 E0/TCK, 90 C14, 91 C13, 92 C11, 93 C4, 94 C3, 95 VCC (power), 96 C2, 97 C1, 98 C0, 99 A13, 100 A12, 101 A11, 102 A4, 103 A3, 104 A2/TDO, 105 GND (power), 106 A0, 107 B0, 108 B1, 109 B4, 110 B11, 111 B12, 112 B14, 113 B15, 114 D0, 115 VCC (power), 116 D1, 117 D2, 118 D4, 119 D11, 120 D12, 121 D13, 122 D15, 123 VCC (power), 124 GND (power), 125 CLK3/IN3 (in), 126 CLK2/IN2 (in), 127 CLK1/IN1 (in), 128 CLK0/IN0 (in), 129 GND (power), 130 VCC (power), 131 K15, 132 K14, 133 K13, 134 K12, 135 GND (power), 136 K11, 137 K4, 138 K2, 139 I15, 140 I14, 141 I13, 142 I12, 143 I4, 144 VCC (power)

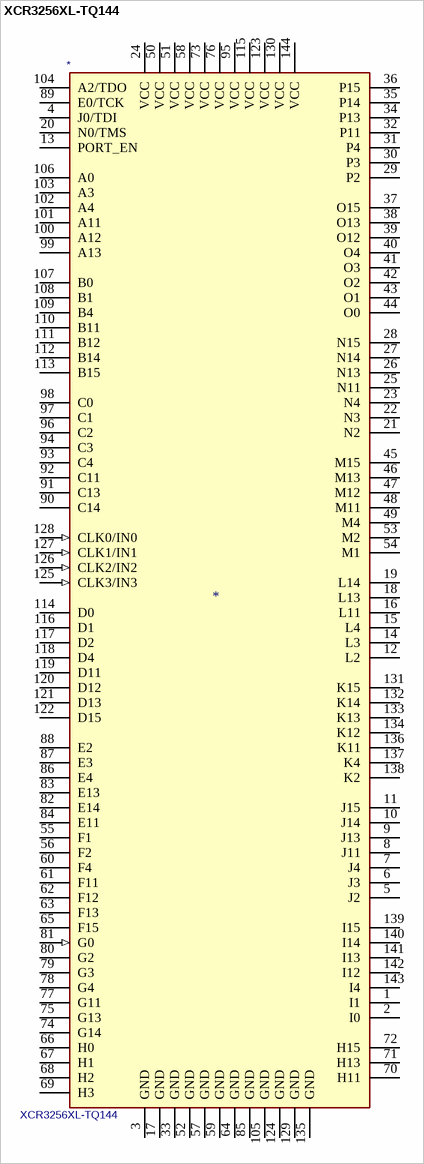
[diagram p3: symbol XCR3256XL-TQ144]

## XCR3256XL-TQ144
designator *  value XCR3256XL-TQ144
ki_keywords: CPLD; ki_description: Xilinx CoolRunner 256-Macrocell CPLD, 3.3V, TQFP-144; ki_fp_filters: TQFP*20x20mm*P0.5*; Footprint: Package_QFP:TQFP-144_20x20mm_P0.5mm; Supplier: https://www.xilinx.com/support/documentation/data_sheets/ds013.pdf
footprint TQFP-144_20x20mm_P0.5mm
pins: 1 I1, 2 I0, 3 GND (power), 4 J0/TDI, 5 J2, 6 J3, 7 J4, 8 J11, 9 J13, 10 J14, 11 J15, 12 L2, 13 PORT_EN, 14 L3, 15 L4, 16 L11, 17 GND (power), 18 L13, 19 L14, 20 N0/TMS, 21 N2, 22 N3, 23 N4, 24 VCC (power), 25 N11, 26 N13, 27 N14, 28 N15, 29 P2, 30 P3, 31 P4, 32 P11, 33 GND (power), 34 P13, 35 P14, 36 P15, 37 O15, 38 O13, 39 O12, 40 O4, 41 O3, 42 O2, 43 O1, 44 O0, 45 M15, 46 M13, 47 M12, 48 M11, 49 M4, 50 VCC (power), 51 VCC (power), 52 GND (power), 53 M2, 54 M1, 55 F1, 56 F2, 57 GND (power), 58 VCC (power), 59 GND (power), 60 F4, 61 F11, 62 F12, 63 F13, 64 GND (power), 65 F15, 66 H0, 67 H1, 68 H2, 69 H3, 70 H11, 71 H13, 72 H15, 73 VCC (power), 74 G14, 75 G13, 76 VCC (power), 77 G11, 78 G4, 79 G3, 80 G2, 81 G0 (in), 82 E14, 83 E13, 84 E11, 85 GND (power), 86 E4, 87 E3, 88 E2, 89 E0/TCK, 90 C14, 91 C13, 92 C11, 93 C4, 94 C3, 95 VCC (power), 96 C2, 97 C1, 98 C0, 99 A13, 100 A12, 101 A11, 102 A4, 103 A3, 104 A2/TDO, 105 GND (power), 106 A0, 107 B0, 108 B1, 109 B4, 110 B11, 111 B12, 112 B14, 113 B15, 114 D0, 115 VCC (power), 116 D1, 117 D2, 118 D4, 119 D11, 120 D12, 121 D13, 122 D15, 123 VCC (power), 124 GND (power), 125 CLK3/IN3 (in), 126 CLK2/IN2 (in), 127 CLK1/IN1 (in), 128 CLK0/IN0 (in), 129 GND (power), 130 VCC (power), 131 K15, 132 K14, 133 K13, 134 K12, 135 GND (power), 136 K11, 137 K4, 138 K2, 139 I15, 140 I14, 141 I13, 142 I12, 143 I4, 144 VCC (power)